# EAGLE library part FAN48610 (library Bulkhead Flight Computer)
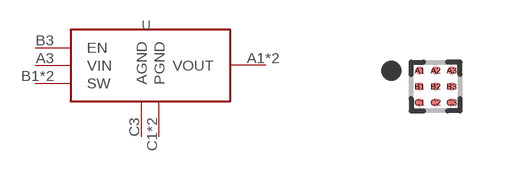
[diagram p14: symbol with the pads of BGA9C40P3X3_121X121X58N; footprint BGA9C40P3X3_121X121X58N]

Designator prefix U

## FAN48610  [BGA9C40P3X3_121X121X58N]
A1  VOUT  pwr
A2  VOUT  pwr
A3  VIN  pwr
B1  SW  pas
B2  SW  pas
B3  EN  in
C1  PGND  pas
C2  PGND  pas
C3  AGND  pas

## Footprint BGA9C40P3X3_121X121X58N (pad centres in mm)
9-BGA, collapsing, 0.40 mm pitch, 1.22 X 1.22 X 0.58 mm body 9-pin collapsing BGA package with 0.40 mm col pitch and 0.40 mm row pitch with body size 1.22 X 1.22 X 0.58 mm
smd 0.2 x 0.2: A1 -0.4,0.4; A2 0,0.4; A3 0.4,0.4; B1 -0.4,0; B2 0,0; B3 0.4,0; C1 -0.4,-0.4; C2 0,-0.4; C3 0.4,-0.4